# EAGLE library part MCP42010 (library dreimalbe)
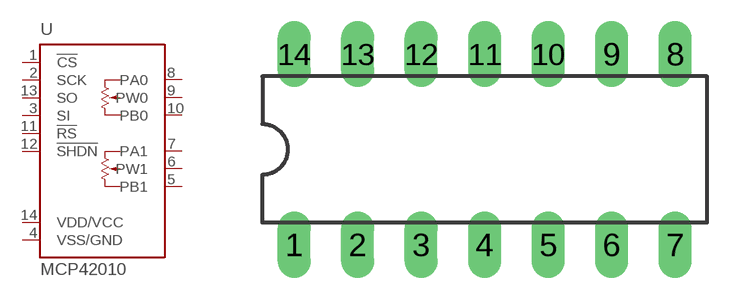
[diagram p7: symbol with the pads of DIL14; footprint DIL14]

Designator prefix -

## MCP42010  [DIL14]
1  !CS  pwr
2  SCK  pwr
3  SI  in
4  VSS/GND  in
5  PB1  pas
6  PW1  pas
7  PA1  pas
8  PA0  pas
9  PW0  pas
10  PB0  pas
11  !RS
12  !SHDN  in
13  SO  pwr
14  VDD/VCC  in

## Footprint DIL14 (pad centres in mm)
Dual In Line Package
drill 0.813 long: 1 -7.62,-3.81; 2 -5.08,-3.81; 3 -2.54,-3.81; 4 0,-3.81; 5 2.54,-3.81; 6 5.08,-3.81; 7 7.62,-3.81; 8 7.62,3.81; 9 5.08,3.81; 10 2.54,3.81; 11 0,3.81; 12 -2.54,3.81; 13 -5.08,3.81; 14 -7.62,3.81